# EAGLE library part MC10H116FNR2G (library Driver_Transceiver ICs)
IC RECEIVER 0/3 20PLCC Manufacturer's datasheet <https://www.onsemi.com/pub/Collateral/MC10H116-D.PDF>
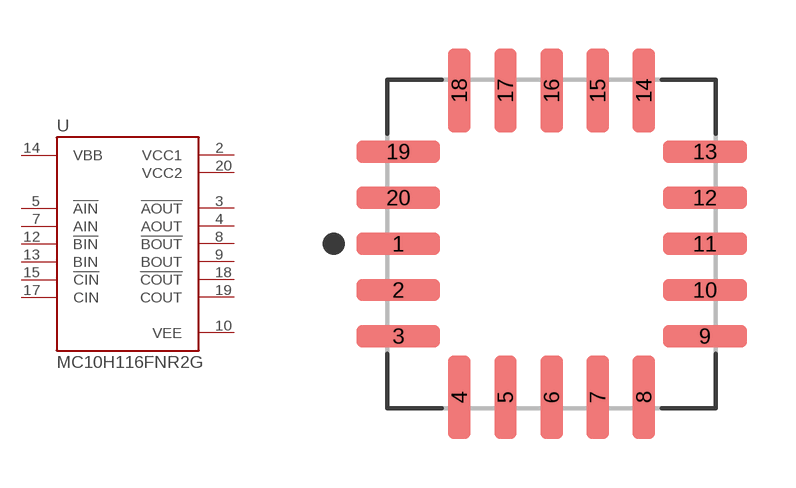
[diagram p12: symbol with the pads of PLCC20; footprint PLCC20]

Designator prefix U

## MC10H116FNR2G (CREATED_BY: PCBLayout.com; DIGIKEY_PN: MC10H116FNR2GOSTR-ND; MANUFACTURER: ON Semiconductor; MPN: MC10H116FNR2G; PACKAGE: PLCC-20)  [PLCC20]
2  VCC1  pwr
3  !AOUT  out
4  AOUT  out
5  !AIN  in
7  AIN  in
8  !BOUT  out
9  BOUT  out
10  VEE  pwr
12  !BIN  in
13  BIN  in
14  VBB  pwr
15  !CIN  in
17  CIN  in
18  !COUT  out
19  COUT  out
20  VCC2  pwr

## Footprint PLCC20 (pad centres in mm)
Plastic Leaded Chip Carrier (PLCC), 1.27 mm pitch; square, 5 pin X 5 pin, 8.965 mm L X 8.965 mm W X 4.57 mm H body PCB Libraries Packages
smd 2.31 x 0.62: 1 -4.22,0; 2 -4.22,-1.27; 3 -4.22,-2.54; 9 4.22,-2.54; 10 4.22,-1.27; 11 4.22,0; 12 4.22,1.27; 13 4.22,2.54; 19 -4.22,2.54; 20 -4.22,1.27
smd 0.62 x 2.31: 4 -2.54,-4.22; 5 -1.27,-4.22; 6 0,-4.22; 7 1.27,-4.22; 8 2.54,-4.22; 14 2.54,4.22; 15 1.27,4.22; 16 0,4.22; 17 -1.27,4.22; 18 -2.54,4.22